# EAGLE library part L6924D (library L6924D)
L6924D, Battery Charge Controller, Lithium-Ion, Lithium-Polymer, 16-Pin VFQFPN Source: Datasheet <http://www.st.com/st-web-ui/static/active/en/resource/technical/document/datasheet/CD00079821.pdf>
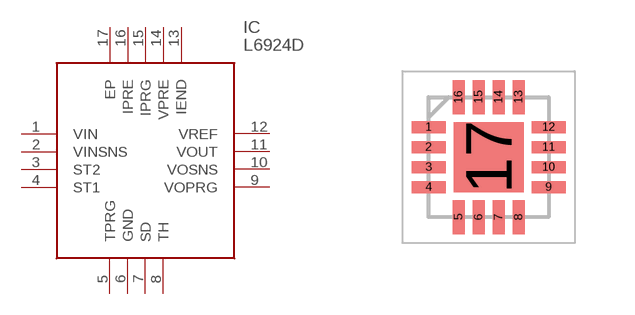
[diagram p0: symbol with the pads of QFN50P300X300X100-17N; footprint QFN50P300X300X100-17N]

Designator prefix IC

## L6924D (Description: L6924D, Battery Charge Controller, Lithium-Ion, Lithium-Polymer, 16-Pin VFQFPN; Height: 1mm; Manufacturer_Name: STMicroelectronics; Manufacturer_Part_Number: L6924D; Mouser_Part_Number: 511-L6924D; Mouser_Price-Stock: https://www.mouser.co.uk/ProductDetail/STMicroelectronics/L6924D?qs=riAxU6JNBCurDvJ0HuYhNA%3D%3D)  [QFN50P300X300X100-17N]
1  VIN
2  VINSNS
3  ST2
4  ST1
5  TPRG
6  GND
7  SD
8  TH
9  VOPRG
10  VOSNS
11  VOUT
12  VREF
13  IEND
14  VPRE
15  IPRG
16  IPRE
17  EP

## Footprint QFN50P300X300X100-17N (pad centres in mm)
L6924D
smd 0.85 x 0.3: 1 -1.5,0.75; 2 -1.5,0.25; 3 -1.5,-0.25; 4 -1.5,-0.75; 9 1.5,-0.75; 10 1.5,-0.25; 11 1.5,0.25; 12 1.5,0.75
smd 0.3 x 0.85: 5 -0.75,-1.5; 6 -0.25,-1.5; 7 0.25,-1.5; 8 0.75,-1.5; 13 0.75,1.5; 14 0.25,1.5; 15 -0.25,1.5; 16 -0.75,1.5
smd 1.75 x 1.75: 17 0,0